# Altium schematic symbol library NDK-8mmx4.5mm Crystal.Schlib: 1 symbol
Pins are listed as number, name and electrical type; pins without a type are passive.

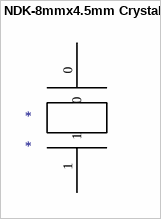
[diagram p0: symbol NDK-8mmx4.5mm Crystal]

## NDK-8mmx4.5mm Crystal
designator *
pins: 0, 1